# EAGLE library part FCC-ONBOARD (library arcadetv)
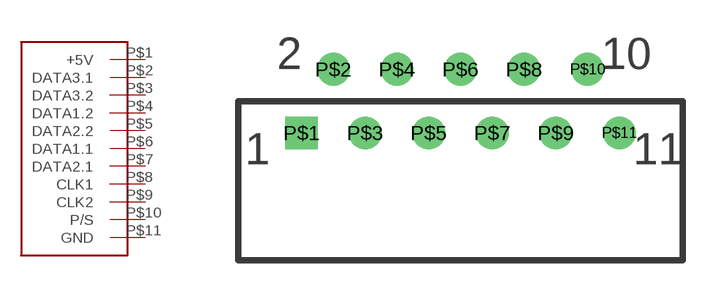
[diagram p0: symbol with the pads of SNES-FCC; footprint SNES-FCC]

Designator prefix -

## FCC-ONBOARDONBOARD  [SNES-FCC]
P$1  +5V
P$2  DATA3.1
P$3  DATA3.2
P$4  DATA1.2
P$5  DATA2.2
P$6  DATA1.1
P$7  DATA2.1
P$8  CLK1
P$9  CLK2
P$10  P/S
P$11  GND

## Footprint SNES-FCC (pad centres in mm)
FCC-Connector on the mainboard which connects the controller ports
drill 0.8 square: P$1 0,0
drill 0.8: P$2 1.27,2.54; P$3 2.54,0; P$4 3.81,2.54; P$5 5.08,0; P$6 6.35,2.54; P$7 7.62,0; P$8 8.89,2.54; P$9 10.16,0; P$10 11.43,2.54; P$11 12.7,0